# EAGLE library part PWR (library OctoGames)
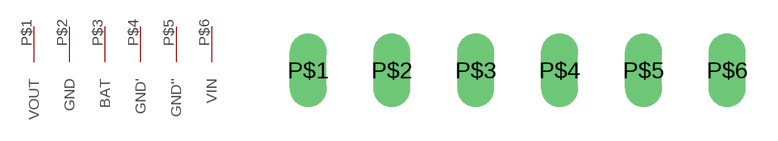
[diagram p2: symbol with the pads of PWR; footprint PWR]

Designator prefix PWR

## PWR  [PWR]
P$1  VOUT
P$2  GND
P$3  BAT
P$4  GND'
P$5  GND''
P$6  VIN

## Footprint PWR (pad centres in mm)
drill 0.6 long: P$1 -5,2.5; P$2 -2.5,2.5; P$3 0,2.5; P$4 2.5,2.5; P$5 5,2.5; P$6 7.5,2.5